# EAGLE library part GYRO_ITG3200 (library microbuilder)
ITG3200 3-Axis Digital Gyroscope VDD: 2.1-3.6V VLOGIC: 1.71V-VDD I2C Speed: 400kHz
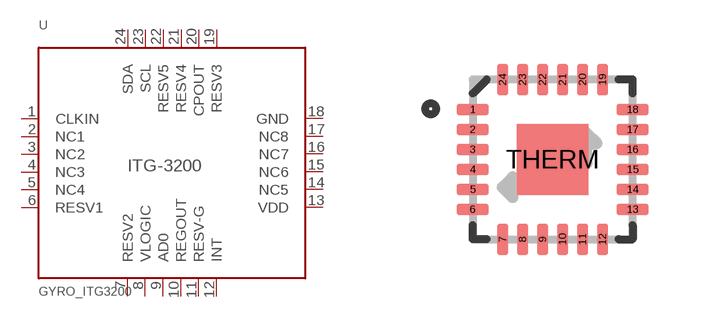
[diagram p110: symbol with the pads of ITG3200_QFN24; footprint ITG3200_QFN24]

Designator prefix U

## GYRO_ITG3200  [ITG3200_QFN24]
1  CLKIN
2  NC1
3  NC2
4  NC3
5  NC4
6  RESV1
7  RESV2
8  VLOGIC
9  AD0
10  REGOUT
11  RESV-G
12  INT
13  VDD
14  NC5
15  NC6
16  NC7
17  NC8
18  GND
19  RESV3
20  CPOUT
21  RESV4
22  RESV5
23  SCL
24  SDA

## Footprint ITG3200_QFN24 (pad centres in mm)
smd 0.8 x 0.28: 1 -2,1.25; 2 -2,0.75; 3 -2,0.25; 4 -2,-0.25; 5 -2,-0.75; 6 -2,-1.25; 13 2,-1.25; 14 2,-0.75; 15 2,-0.25; 16 2,0.25; 17 2,0.75; 18 2,1.25
smd 0.28 x 0.8: 7 -1.25,-2; 8 -0.75,-2; 9 -0.25,-2; 10 0.25,-2; 11 0.75,-2; 12 1.25,-2; 19 1.25,2; 20 0.75,2; 21 0.25,2; 22 -0.25,2; 23 -0.75,2; 24 -1.25,2
smd 1.778 x 1.778: THERM 0,0